# Altium footprint library IPC-7358 BGA_Sq_150P.PcbLib: 47 footprints (part 1 of 6)
Each footprint in its own frame and in the unit in brackets; x right, y up, seen from the top. Pads: shape width x height; smd on the part's side, far side on the other; paste and mask are expansions set on the pad; w line width, h text height; cw(c..) or ccw(c..) is an arc to the next point about the centre after c.
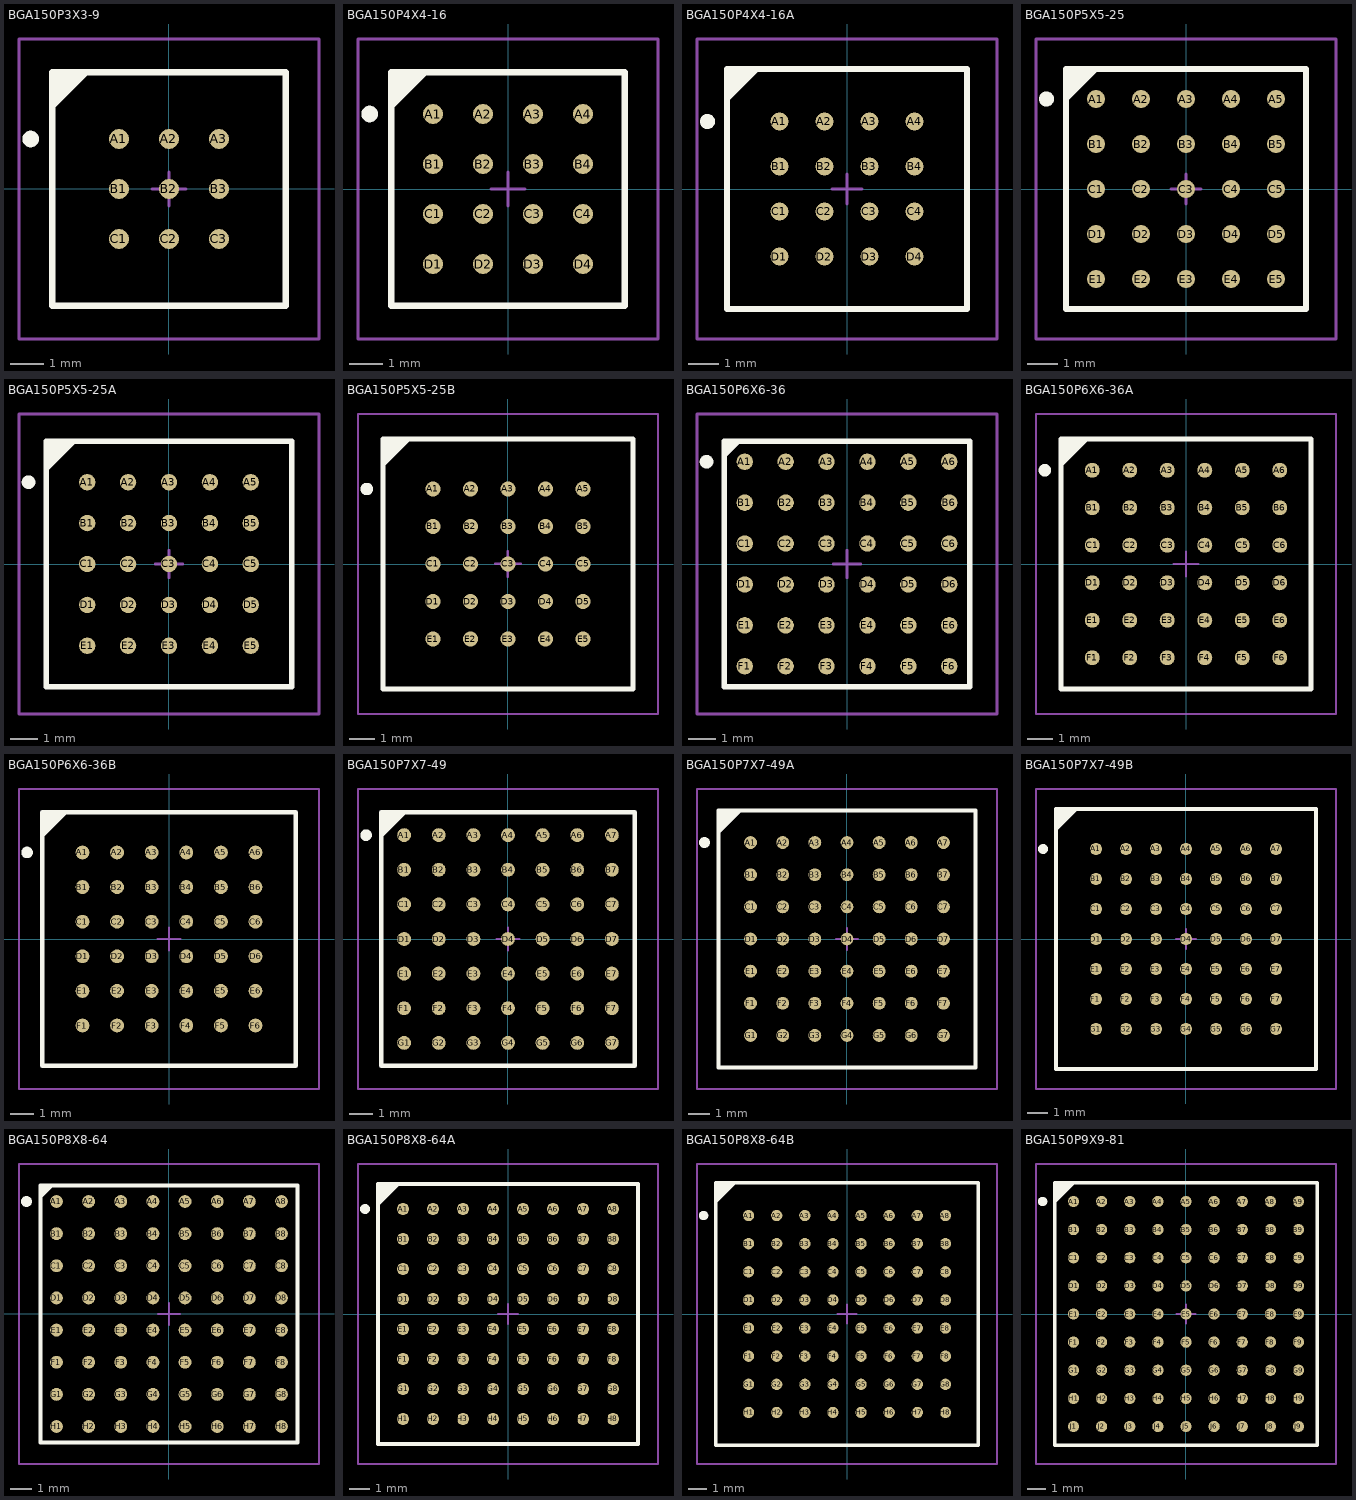
[diagram p0: the footprints below, top view; thin cyan lines are the x and y axes]

## BGA150P3X3-9 [mm] "BGA, 9-Leads, Body 7x7mm, Pitch 1.5mm"
height 3.5
pads (9):
  round 0.6 smd: A1(-1.5,1.5) A2(0,1.5) A3(1.5,1.5) B1(-1.5,0) B2(0,0) B3(1.5,0) C1(-1.5,-1.5) C2(0,-1.5) C3(1.5,-1.5)
Top Overlay:
  circle w0.25: c-4.15,1.5 r0.125
  region: -2.5,3.5 -3.5,2.5 -3.5,3.5
  lines w0.2: -3.5,2.5 -2.5,3.5 ; -3.5,-3.5 3.5,-3.5 3.5,3.5 -3.5,3.5 -3.5,-3.5
Mechanical 13:
  lines w0.1: -3.5,-3.5 3.5,-3.5 3.5,3.5 -3.5,3.5 -3.5,-3.5
Mechanical 15:
  lines w0.1: -0.5,0 0.5,0 ; 0,-0.5 0,0.5 ; -4.5,-4.5 4.5,-4.5 4.5,4.5 -4.5,4.5 -4.5,-4.5
3D body: height 3.5, standoff 0, extent -3.5,-3.5 3.5,3.5

## BGA150P4X4-16 [mm] "BGA, 16-Leads, Body 7x7mm, Pitch 1.5mm"
height 3.5
pads (16):
  round 0.6 smd: A1(-2.25,2.25) A2(-0.75,2.25) A3(0.75,2.25) A4(2.25,2.25) B1(-2.25,0.75) B2(-0.75,0.75) B3(0.75,0.75) B4(2.25,0.75) C1(-2.25,-0.75) C2(-0.75,-0.75) C3(0.75,-0.75) C4(2.25,-0.75) D1(-2.25,-2.25) D2(-0.75,-2.25) D3(0.75,-2.25) D4(2.25,-2.25)
Top Overlay:
  circle w0.25: c-4.15,2.25 r0.125
  region: -2.5,3.5 -3.5,2.5 -3.5,3.5
  lines w0.2: -3.5,2.5 -2.5,3.5 ; -3.5,-3.5 3.5,-3.5 3.5,3.5 -3.5,3.5 -3.5,-3.5
Mechanical 13:
  lines w0.1: -3.5,-3.5 3.5,-3.5 3.5,3.5 -3.5,3.5 -3.5,-3.5
Mechanical 15:
  lines w0.1: -0.5,0 0.5,0 ; 0,-0.5 0,0.5 ; -4.5,-4.5 4.5,-4.5 4.5,4.5 -4.5,4.5 -4.5,-4.5
3D body: height 3.5, standoff 0, extent -3.5,-3.5 3.5,3.5

## BGA150P4X4-16A [mm] "BGA, 16-Leads, Body 8x8mm, Pitch 1.5mm"
height 3.5
pads (16):
  round 0.6 smd: A1(-2.25,2.25) A2(-0.75,2.25) A3(0.75,2.25) A4(2.25,2.25) B1(-2.25,0.75) B2(-0.75,0.75) B3(0.75,0.75) B4(2.25,0.75) C1(-2.25,-0.75) C2(-0.75,-0.75) C3(0.75,-0.75) C4(2.25,-0.75) D1(-2.25,-2.25) D2(-0.75,-2.25) D3(0.75,-2.25) D4(2.25,-2.25)
Top Overlay:
  circle w0.25: c-4.65,2.25 r0.125
  region: -3,4 -4,3 -4,4
  lines w0.2: -4,3 -3,4 ; -4,-4 4,-4 4,4 -4,4 -4,-4
Mechanical 13:
  lines w0.1: -4,-4 4,-4 4,4 -4,4 -4,-4
Mechanical 15:
  lines w0.1: -0.5,0 0.5,0 ; 0,-0.5 0,0.5 ; -5,-5 5,-5 5,5 -5,5 -5,-5
3D body: height 3.5, standoff 0, extent -4,-4 4,4

## BGA150P5X5-25 [mm] "BGA, 25-Leads, Body 8x8mm, Pitch 1.5mm"
height 3.5
pads (25):
  round 0.6 smd: A1(-3,3) A2(-1.5,3) A3(0,3) A4(1.5,3) A5(3,3) B1(-3,1.5) B2(-1.5,1.5) B3(0,1.5) B4(1.5,1.5) B5(3,1.5) C1(-3,0) C2(-1.5,0) C3(0,0) C4(1.5,0) C5(3,0) D1(-3,-1.5) D2(-1.5,-1.5) D3(0,-1.5) D4(1.5,-1.5) D5(3,-1.5) E1(-3,-3) E2(-1.5,-3) E3(0,-3) E4(1.5,-3) E5(3,-3)
Top Overlay:
  circle w0.25: c-4.65,3 r0.125
  region: -3,4 -4,3 -4,4
  lines w0.2: -4,3 -3,4 ; -4,-4 4,-4 4,4 -4,4 -4,-4
Mechanical 13:
  lines w0.1: -4,-4 4,-4 4,4 -4,4 -4,-4
Mechanical 15:
  lines w0.1: -0.5,0 0.5,0 ; 0,-0.5 0,0.5 ; -5,-5 5,-5 5,5 -5,5 -5,-5
3D body: height 3.5, standoff 0, extent -4,-4 4,4

## BGA150P5X5-25A [mm] "BGA, 25-Leads, Body 9x9mm, Pitch 1.5mm"
height 3.5
pads (25):
  round 0.6 smd: A1(-3,3) A2(-1.5,3) A3(0,3) A4(1.5,3) A5(3,3) B1(-3,1.5) B2(-1.5,1.5) B3(0,1.5) B4(1.5,1.5) B5(3,1.5) C1(-3,0) C2(-1.5,0) C3(0,0) C4(1.5,0) C5(3,0) D1(-3,-1.5) D2(-1.5,-1.5) D3(0,-1.5) D4(1.5,-1.5) D5(3,-1.5) E1(-3,-3) E2(-1.5,-3) E3(0,-3) E4(1.5,-3) E5(3,-3)
Top Overlay:
  circle w0.25: c-5.15,3 r0.125
  region: -3.5,4.5 -4.5,3.5 -4.5,4.5
  lines w0.2: -4.5,3.5 -3.5,4.5 ; -4.5,-4.5 -4.5,4.5 4.5,4.5 4.5,-4.5 -4.5,-4.5
Mechanical 13:
  lines w0.1: -4.5,-4.5 -4.5,4.5 4.5,4.5 4.5,-4.5 -4.5,-4.5
Mechanical 15:
  lines w0.1: -0.5,0 0.5,0 ; 0,-0.5 0,0.5 ; -5.5,-5.5 -5.5,5.5 5.5,5.5 5.5,-5.5 -5.5,-5.5
3D body: height 3.5, standoff 0, extent -4.5,-4.5 4.5,4.5

## BGA150P5X5-25B [mm] "BGA, 25-Leads, Body 10x10mm, Pitch 1.5mm"
height 3.5
pads (25):
  round 0.6 smd: A1(-3,3) A2(-1.5,3) A3(0,3) A4(1.5,3) A5(3,3) B1(-3,1.5) B2(-1.5,1.5) B3(0,1.5) B4(1.5,1.5) B5(3,1.5) C1(-3,0) C2(-1.5,0) C3(0,0) C4(1.5,0) C5(3,0) D1(-3,-1.5) D2(-1.5,-1.5) D3(0,-1.5) D4(1.5,-1.5) D5(3,-1.5) E1(-3,-3) E2(-1.5,-3) E3(0,-3) E4(1.5,-3) E5(3,-3)
Top Overlay:
  circle w0.25: c-5.65,3 r0.125
  region: -4,5 -5,4 -5,5
  lines w0.2: -5,4 -4,5 ; -5,-5 -5,5 5,5 5,-5 -5,-5
Mechanical 13:
  lines w0.1: -5,-5 -5,5 5,5 5,-5 -5,-5
Mechanical 15:
  lines w0.1: -0.5,0 0.5,0 ; 0,-0.5 0,0.5 ; -6,-6 -6,6 6,6 6,-6 -6,-6
3D body: height 3.5, standoff 0, extent -5,-5 5,5

## BGA150P6X6-36 [mm] "BGA, 36-Leads, Body 9x9mm, Pitch 1.5mm"
height 3.5
pads (36):
  round 0.6 smd: A1(-3.75,3.75) A2(-2.25,3.75) A3(-0.75,3.75) A4(0.75,3.75) A5(2.25,3.75) A6(3.75,3.75) B1(-3.75,2.25) B2(-2.25,2.25) B3(-0.75,2.25) B4(0.75,2.25) B5(2.25,2.25) B6(3.75,2.25) C1(-3.75,0.75) C2(-2.25,0.75) C3(-0.75,0.75) C4(0.75,0.75) C5(2.25,0.75) C6(3.75,0.75) D1(-3.75,-0.75) D2(-2.25,-0.75) D3(-0.75,-0.75) D4(0.75,-0.75) D5(2.25,-0.75) D6(3.75,-0.75) E1(-3.75,-2.25) E2(-2.25,-2.25) E3(-0.75,-2.25) E4(0.75,-2.25) E5(2.25,-2.25) E6(3.75,-2.25) F1(-3.75,-3.75) F2(-2.25,-3.75) F3(-0.75,-3.75) F4(0.75,-3.75) F5(2.25,-3.75) F6(3.75,-3.75)
Top Overlay:
  circle w0.25: c-5.15,3.75 r0.125
  region: -3.99,4.5 -4.5,3.99 -4.5,4.5
  lines w0.2: -4.5,3.99 -3.99,4.5 ; -4.5,-4.5 -4.5,4.5 4.5,4.5 4.5,-4.5 -4.5,-4.5
Mechanical 13:
  lines w0.1: -4.5,-4.5 -4.5,4.5 4.5,4.5 4.5,-4.5 -4.5,-4.5
Mechanical 15:
  lines w0.1: -0.5,0 0.5,0 ; 0,-0.5 0,0.5 ; -5.5,-5.5 -5.5,5.5 5.5,5.5 5.5,-5.5 -5.5,-5.5
3D body: height 3.5, standoff 0, extent -4.5,-4.5 4.5,4.5

## BGA150P6X6-36A [mm] "BGA, 36-Leads, Body 10x10mm, Pitch 1.5mm"
height 3.5
pads (36):
  round 0.6 smd: A1(-3.75,3.75) A2(-2.25,3.75) A3(-0.75,3.75) A4(0.75,3.75) A5(2.25,3.75) A6(3.75,3.75) B1(-3.75,2.25) B2(-2.25,2.25) B3(-0.75,2.25) B4(0.75,2.25) B5(2.25,2.25) B6(3.75,2.25) C1(-3.75,0.75) C2(-2.25,0.75) C3(-0.75,0.75) C4(0.75,0.75) C5(2.25,0.75) C6(3.75,0.75) D1(-3.75,-0.75) D2(-2.25,-0.75) D3(-0.75,-0.75) D4(0.75,-0.75) D5(2.25,-0.75) D6(3.75,-0.75) E1(-3.75,-2.25) E2(-2.25,-2.25) E3(-0.75,-2.25) E4(0.75,-2.25) E5(2.25,-2.25) E6(3.75,-2.25) F1(-3.75,-3.75) F2(-2.25,-3.75) F3(-0.75,-3.75) F4(0.75,-3.75) F5(2.25,-3.75) F6(3.75,-3.75)
Top Overlay:
  circle w0.25: c-5.65,3.75 r0.125
  region: -4,5 -5,4 -5,5
  lines w0.2: -5,4 -4,5 ; -5,-5 -5,5 5,5 5,-5 -5,-5
Mechanical 13:
  lines w0.1: -5,-5 -5,5 5,5 5,-5 -5,-5
Mechanical 15:
  lines w0.1: -0.5,0 0.5,0 ; 0,-0.5 0,0.5 ; -6,-6 -6,6 6,6 6,-6 -6,-6
3D body: height 3.5, standoff 0, extent -5,-5 5,5

## BGA150P6X6-36B [mm] "BGA, 36-Leads, Body 11x11mm, Pitch 1.5mm"
height 3.5
pads (36):
  round 0.6 smd: A1(-3.75,3.75) A2(-2.25,3.75) A3(-0.75,3.75) A4(0.75,3.75) A5(2.25,3.75) A6(3.75,3.75) B1(-3.75,2.25) B2(-2.25,2.25) B3(-0.75,2.25) B4(0.75,2.25) B5(2.25,2.25) B6(3.75,2.25) C1(-3.75,0.75) C2(-2.25,0.75) C3(-0.75,0.75) C4(0.75,0.75) C5(2.25,0.75) C6(3.75,0.75) D1(-3.75,-0.75) D2(-2.25,-0.75) D3(-0.75,-0.75) D4(0.75,-0.75) D5(2.25,-0.75) D6(3.75,-0.75) E1(-3.75,-2.25) E2(-2.25,-2.25) E3(-0.75,-2.25) E4(0.75,-2.25) E5(2.25,-2.25) E6(3.75,-2.25) F1(-3.75,-3.75) F2(-2.25,-3.75) F3(-0.75,-3.75) F4(0.75,-3.75) F5(2.25,-3.75) F6(3.75,-3.75)
Top Overlay:
  circle w0.25: c-6.15,3.75 r0.125
  region: -4.5,5.5 -5.5,4.5 -5.5,5.5
  lines w0.2: -5.5,4.5 -4.5,5.5 ; -5.5,-5.5 -5.5,5.5 5.5,5.5 5.5,-5.5 -5.5,-5.5
Mechanical 13:
  lines w0.1: -5.5,-5.5 -5.5,5.5 5.5,5.5 5.5,-5.5 -5.5,-5.5
Mechanical 15:
  lines w0.1: -0.5,0 0.5,0 ; 0,-0.5 0,0.5 ; -6.5,-6.5 -6.5,6.5 6.5,6.5 6.5,-6.5 -6.5,-6.5
3D body: height 3.5, standoff 0, extent -5.5,-5.5 5.5,5.5

## BGA150P7X7-49 [mm] "BGA, 49-Leads, Body 11x11mm, Pitch 1.5mm"
height 3.5
pads (49):
  round 0.6 smd: A1(-4.5,4.5) A2(-3,4.5) A3(-1.5,4.5) A4(0,4.5) A5(1.5,4.5) A6(3,4.5) A7(4.5,4.5) B1(-4.5,3) B2(-3,3) B3(-1.5,3) B4(0,3) B5(1.5,3) B6(3,3) B7(4.5,3) C1(-4.5,1.5) C2(-3,1.5) C3(-1.5,1.5) C4(0,1.5) C5(1.5,1.5) C6(3,1.5) C7(4.5,1.5) D1(-4.5,0) D2(-3,0) D3(-1.5,0) D4(0,0) D5(1.5,0) D6(3,0) D7(4.5,0) E1(-4.5,-1.5) E2(-3,-1.5) E3(-1.5,-1.5) E4(0,-1.5) E5(1.5,-1.5) E6(3,-1.5) E7(4.5,-1.5) F1(-4.5,-3) F2(-3,-3) F3(-1.5,-3) F4(0,-3) F5(1.5,-3) F6(3,-3) F7(4.5,-3) G1(-4.5,-4.5) G2(-3,-4.5) G3(-1.5,-4.5) G4(0,-4.5) G5(1.5,-4.5) G6(3,-4.5) G7(4.5,-4.5)
Top Overlay:
  circle w0.25: c-6.15,4.5 r0.125
  region: -4.5,5.5 -5.5,4.5 -5.5,5.5
  lines w0.2: -5.5,4.5 -4.5,5.5 ; -5.5,-5.5 5.5,-5.5 5.5,5.5 -5.5,5.5 -5.5,-5.5
Mechanical 13:
  lines w0.1: -5.5,-5.5 5.5,-5.5 5.5,5.5 -5.5,5.5 -5.5,-5.5
Mechanical 15:
  lines w0.1: -0.5,0 0.5,0 ; 0,-0.5 0,0.5 ; -6.5,-6.5 6.5,-6.5 6.5,6.5 -6.5,6.5 -6.5,-6.5
3D body: height 3.5, standoff 0, extent -5.5,-5.5 5.5,5.5

## BGA150P7X7-49A [mm] "BGA, 49-Leads, Body 12x12mm, Pitch 1.5mm"
height 3.5
pads (49):
  round 0.6 smd: A1(-4.5,4.5) A2(-3,4.5) A3(-1.5,4.5) A4(0,4.5) A5(1.5,4.5) A6(3,4.5) A7(4.5,4.5) B1(-4.5,3) B2(-3,3) B3(-1.5,3) B4(0,3) B5(1.5,3) B6(3,3) B7(4.5,3) C1(-4.5,1.5) C2(-3,1.5) C3(-1.5,1.5) C4(0,1.5) C5(1.5,1.5) C6(3,1.5) C7(4.5,1.5) D1(-4.5,0) D2(-3,0) D3(-1.5,0) D4(0,0) D5(1.5,0) D6(3,0) D7(4.5,0) E1(-4.5,-1.5) E2(-3,-1.5) E3(-1.5,-1.5) E4(0,-1.5) E5(1.5,-1.5) E6(3,-1.5) E7(4.5,-1.5) F1(-4.5,-3) F2(-3,-3) F3(-1.5,-3) F4(0,-3) F5(1.5,-3) F6(3,-3) F7(4.5,-3) G1(-4.5,-4.5) G2(-3,-4.5) G3(-1.5,-4.5) G4(0,-4.5) G5(1.5,-4.5) G6(3,-4.5) G7(4.5,-4.5)
Top Overlay:
  circle w0.25: c-6.65,4.5 r0.125
  region: -5,6 -6,5 -6,6
  lines w0.2: -6,5 -5,6 ; -6,-6 6,-6 6,6 -6,6 -6,-6
Mechanical 13:
  lines w0.1: -6,-6 6,-6 6,6 -6,6 -6,-6
Mechanical 15:
  lines w0.1: -0.5,0 0.5,0 ; 0,-0.5 0,0.5 ; -7,-7 7,-7 7,7 -7,7 -7,-7
3D body: height 3.5, standoff 0, extent -6,-6 6,6

## BGA150P7X7-49B [mm] "BGA, 49-Leads, Body 13x13mm, Pitch 1.5mm"
height 3.5
pads (49):
  round 0.6 smd: A1(-4.5,4.5) A2(-3,4.5) A3(-1.5,4.5) A4(0,4.5) A5(1.5,4.5) A6(3,4.5) A7(4.5,4.5) B1(-4.5,3) B2(-3,3) B3(-1.5,3) B4(0,3) B5(1.5,3) B6(3,3) B7(4.5,3) C1(-4.5,1.5) C2(-3,1.5) C3(-1.5,1.5) C4(0,1.5) C5(1.5,1.5) C6(3,1.5) C7(4.5,1.5) D1(-4.5,0) D2(-3,0) D3(-1.5,0) D4(0,0) D5(1.5,0) D6(3,0) D7(4.5,0) E1(-4.5,-1.5) E2(-3,-1.5) E3(-1.5,-1.5) E4(0,-1.5) E5(1.5,-1.5) E6(3,-1.5) E7(4.5,-1.5) F1(-4.5,-3) F2(-3,-3) F3(-1.5,-3) F4(0,-3) F5(1.5,-3) F6(3,-3) F7(4.5,-3) G1(-4.5,-4.5) G2(-3,-4.5) G3(-1.5,-4.5) G4(0,-4.5) G5(1.5,-4.5) G6(3,-4.5) G7(4.5,-4.5)
Top Overlay:
  circle w0.25: c-7.15,4.5 r0.125
  region: -5.5,6.5 -6.5,5.5 -6.5,6.5
  lines w0.2: -6.5,5.5 -5.5,6.5 ; -6.5,-6.5 6.5,-6.5 6.5,6.5 -6.5,6.5 -6.5,-6.5
Mechanical 13:
  lines w0.1: -6.5,-6.5 6.5,-6.5 6.5,6.5 -6.5,6.5 -6.5,-6.5
Mechanical 15:
  lines w0.1: -0.5,0 0.5,0 ; 0,-0.5 0,0.5 ; -7.5,-7.5 7.5,-7.5 7.5,7.5 -7.5,7.5 -7.5,-7.5
3D body: height 3.5, standoff 0, extent -6.5,-6.5 6.5,6.5

## BGA150P8X8-64 [mm] "BGA, 64-Leads, Body 12x12mm, Pitch 1.5mm"
height 3.5
pads (64):
  round 0.6 smd: A1(-5.25,5.25) A2(-3.75,5.25) A3(-2.25,5.25) A4(-0.75,5.25) A5(0.75,5.25) A6(2.25,5.25) A7(3.75,5.25) A8(5.25,5.25) B1(-5.25,3.75) B2(-3.75,3.75) B3(-2.25,3.75) B4(-0.75,3.75) B5(0.75,3.75) B6(2.25,3.75) B7(3.75,3.75) B8(5.25,3.75) C1(-5.25,2.25) C2(-3.75,2.25) C3(-2.25,2.25) C4(-0.75,2.25) C5(0.75,2.25) C6(2.25,2.25) C7(3.75,2.25) C8(5.25,2.25) D1(-5.25,0.75) D2(-3.75,0.75) D3(-2.25,0.75) D4(-0.75,0.75) D5(0.75,0.75) D6(2.25,0.75) D7(3.75,0.75) D8(5.25,0.75) E1(-5.25,-0.75) E2(-3.75,-0.75) E3(-2.25,-0.75) E4(-0.75,-0.75) E5(0.75,-0.75) E6(2.25,-0.75) E7(3.75,-0.75) E8(5.25,-0.75) F1(-5.25,-2.25) F2(-3.75,-2.25) F3(-2.25,-2.25) F4(-0.75,-2.25) F5(0.75,-2.25) F6(2.25,-2.25) F7(3.75,-2.25) F8(5.25,-2.25) G1(-5.25,-3.75) G2(-3.75,-3.75) G3(-2.25,-3.75) G4(-0.75,-3.75) G5(0.75,-3.75) G6(2.25,-3.75) G7(3.75,-3.75) G8(5.25,-3.75) H1(-5.25,-5.25) H2(-3.75,-5.25) H3(-2.25,-5.25) H4(-0.75,-5.25) H5(0.75,-5.25) H6(2.25,-5.25) H7(3.75,-5.25) H8(5.25,-5.25)
Top Overlay:
  circle w0.25: c-6.65,5.25 r0.125
  region: -5.49,6 -6,5.49 -6,6
  lines w0.2: -6,5.49 -5.49,6 ; -6,-6 6,-6 6,6 -6,6 -6,-6
Mechanical 13:
  lines w0.1: -6,-6 6,-6 6,6 -6,6 -6,-6
Mechanical 15:
  lines w0.1: -0.5,0 0.5,0 ; 0,-0.5 0,0.5 ; -7,-7 7,-7 7,7 -7,7 -7,-7
3D body: height 3.5, standoff 0, extent -6,-6 6,6

## BGA150P8X8-64A [mm] "BGA, 64-Leads, Body 13x13mm, Pitch 1.5mm"
height 3.5
pads (64):
  round 0.6 smd: A1(-5.25,5.25) A2(-3.75,5.25) A3(-2.25,5.25) A4(-0.75,5.25) A5(0.75,5.25) A6(2.25,5.25) A7(3.75,5.25) A8(5.25,5.25) B1(-5.25,3.75) B2(-3.75,3.75) B3(-2.25,3.75) B4(-0.75,3.75) B5(0.75,3.75) B6(2.25,3.75) B7(3.75,3.75) B8(5.25,3.75) C1(-5.25,2.25) C2(-3.75,2.25) C3(-2.25,2.25) C4(-0.75,2.25) C5(0.75,2.25) C6(2.25,2.25) C7(3.75,2.25) C8(5.25,2.25) D1(-5.25,0.75) D2(-3.75,0.75) D3(-2.25,0.75) D4(-0.75,0.75) D5(0.75,0.75) D6(2.25,0.75) D7(3.75,0.75) D8(5.25,0.75) E1(-5.25,-0.75) E2(-3.75,-0.75) E3(-2.25,-0.75) E4(-0.75,-0.75) E5(0.75,-0.75) E6(2.25,-0.75) E7(3.75,-0.75) E8(5.25,-0.75) F1(-5.25,-2.25) F2(-3.75,-2.25) F3(-2.25,-2.25) F4(-0.75,-2.25) F5(0.75,-2.25) F6(2.25,-2.25) F7(3.75,-2.25) F8(5.25,-2.25) G1(-5.25,-3.75) G2(-3.75,-3.75) G3(-2.25,-3.75) G4(-0.75,-3.75) G5(0.75,-3.75) G6(2.25,-3.75) G7(3.75,-3.75) G8(5.25,-3.75) H1(-5.25,-5.25) H2(-3.75,-5.25) H3(-2.25,-5.25) H4(-0.75,-5.25) H5(0.75,-5.25) H6(2.25,-5.25) H7(3.75,-5.25) H8(5.25,-5.25)
Top Overlay:
  circle w0.25: c-7.15,5.25 r0.125
  region: -5.5,6.5 -6.5,5.5 -6.5,6.5
  lines w0.2: -6.5,5.5 -5.5,6.5 ; -6.5,-6.5 6.5,-6.5 6.5,6.5 -6.5,6.5 -6.5,-6.5
Mechanical 13:
  lines w0.1: -6.5,-6.5 6.5,-6.5 6.5,6.5 -6.5,6.5 -6.5,-6.5
Mechanical 15:
  lines w0.1: -0.5,0 0.5,0 ; 0,-0.5 0,0.5 ; -7.5,-7.5 7.5,-7.5 7.5,7.5 -7.5,7.5 -7.5,-7.5
3D body: height 3.5, standoff 0, extent -6.5,-6.5 6.5,6.5

## BGA150P8X8-64B [mm] "BGA, 64-Leads, Body 14x14mm, Pitch 1.5mm"
height 3.5
pads (64):
  round 0.6 smd: A1(-5.25,5.25) A2(-3.75,5.25) A3(-2.25,5.25) A4(-0.75,5.25) A5(0.75,5.25) A6(2.25,5.25) A7(3.75,5.25) A8(5.25,5.25) B1(-5.25,3.75) B2(-3.75,3.75) B3(-2.25,3.75) B4(-0.75,3.75) B5(0.75,3.75) B6(2.25,3.75) B7(3.75,3.75) B8(5.25,3.75) C1(-5.25,2.25) C2(-3.75,2.25) C3(-2.25,2.25) C4(-0.75,2.25) C5(0.75,2.25) C6(2.25,2.25) C7(3.75,2.25) C8(5.25,2.25) D1(-5.25,0.75) D2(-3.75,0.75) D3(-2.25,0.75) D4(-0.75,0.75) D5(0.75,0.75) D6(2.25,0.75) D7(3.75,0.75) D8(5.25,0.75) E1(-5.25,-0.75) E2(-3.75,-0.75) E3(-2.25,-0.75) E4(-0.75,-0.75) E5(0.75,-0.75) E6(2.25,-0.75) E7(3.75,-0.75) E8(5.25,-0.75) F1(-5.25,-2.25) F2(-3.75,-2.25) F3(-2.25,-2.25) F4(-0.75,-2.25) F5(0.75,-2.25) F6(2.25,-2.25) F7(3.75,-2.25) F8(5.25,-2.25) G1(-5.25,-3.75) G2(-3.75,-3.75) G3(-2.25,-3.75) G4(-0.75,-3.75) G5(0.75,-3.75) G6(2.25,-3.75) G7(3.75,-3.75) G8(5.25,-3.75) H1(-5.25,-5.25) H2(-3.75,-5.25) H3(-2.25,-5.25) H4(-0.75,-5.25) H5(0.75,-5.25) H6(2.25,-5.25) H7(3.75,-5.25) H8(5.25,-5.25)
Top Overlay:
  circle w0.25: c-7.65,5.25 r0.125
  region: -6,7 -7,6 -7,7
  lines w0.2: -7,6 -6,7 ; -7,-7 7,-7 7,7 -7,7 -7,-7
Mechanical 13:
  lines w0.1: -7,-7 7,-7 7,7 -7,7 -7,-7
Mechanical 15:
  lines w0.1: -0.5,0 0.5,0 ; 0,-0.5 0,0.5 ; -8,-8 8,-8 8,8 -8,8 -8,-8
3D body: height 3.5, standoff 0, extent -7,-7 7,7

## BGA150P9X9-81 [mm] "BGA, 81-Leads, Body 14x14mm, Pitch 1.5mm"
height 3.5
pads (81):
  round 0.6 smd: A1(-6,6) A2(-4.5,6) A3(-3,6) A4(-1.5,6) A5(0,6) A6(1.5,6) A7(3,6) A8(4.5,6) A9(6,6) B1(-6,4.5) B2(-4.5,4.5) B3(-3,4.5) B4(-1.5,4.5) B5(0,4.5) B6(1.5,4.5) B7(3,4.5) B8(4.5,4.5) B9(6,4.5) C1(-6,3) C2(-4.5,3) C3(-3,3) C4(-1.5,3) C5(0,3) C6(1.5,3) C7(3,3) C8(4.5,3) C9(6,3) D1(-6,1.5) D2(-4.5,1.5) D3(-3,1.5) D4(-1.5,1.5) D5(0,1.5) D6(1.5,1.5) D7(3,1.5) D8(4.5,1.5) D9(6,1.5) E1(-6,0) E2(-4.5,0) E3(-3,0) E4(-1.5,0) E5(0,0) E6(1.5,0) E7(3,0) E8(4.5,0) E9(6,0) F1(-6,-1.5) F2(-4.5,-1.5) F3(-3,-1.5) F4(-1.5,-1.5) F5(0,-1.5) F6(1.5,-1.5) F7(3,-1.5) F8(4.5,-1.5) F9(6,-1.5) G1(-6,-3) G2(-4.5,-3) G3(-3,-3) G4(-1.5,-3) G5(0,-3) G6(1.5,-3) G7(3,-3) G8(4.5,-3) G9(6,-3) H1(-6,-4.5) H2(-4.5,-4.5) H3(-3,-4.5) H4(-1.5,-4.5) H5(0,-4.5) H6(1.5,-4.5) H7(3,-4.5) H8(4.5,-4.5) H9(6,-4.5) J1(-6,-6) J2(-4.5,-6) J3(-3,-6) J4(-1.5,-6) J5(0,-6) J6(1.5,-6) J7(3,-6) J8(4.5,-6) J9(6,-6)
Top Overlay:
  circle w0.25: c-7.65,6 r0.125
  region: -6,7 -7,6 -7,7
  lines w0.2: -7,6 -6,7 ; -7,-7 7,-7 7,7 -7,7 -7,-7
Mechanical 13:
  lines w0.1: -7,-7 7,-7 7,7 -7,7 -7,-7
Mechanical 15:
  lines w0.1: -0.5,0 0.5,0 ; 0,-0.5 0,0.5 ; -8,-8 8,-8 8,8 -8,8 -8,-8
3D body: height 3.5, standoff 0, extent -7,-7 7,7